# Altium schematic symbol library BSS84-SOT23.Schlib: 1 symbol
Pins are listed as number, name and electrical type; pins without a type are passive.

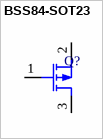
[diagram p0: symbol BSS84-SOT23]

## BSS84-SOT23
designator Q?  (value not drawn)
pins: 1 G, 2 S, 3 D